# Altium footprint library TIDA-PowerNBIoT_PCB.PcbLib: 30 footprints (part 1 of 2)
Each footprint in its own frame and in the unit in brackets; x right, y up, seen from the top. Pads: shape width x height; smd on the part's side, far side on the other; paste and mask are expansions set on the pad; w line width, h text height; cw(c..) or ccw(c..) is an arc to the next point about the centre after c.
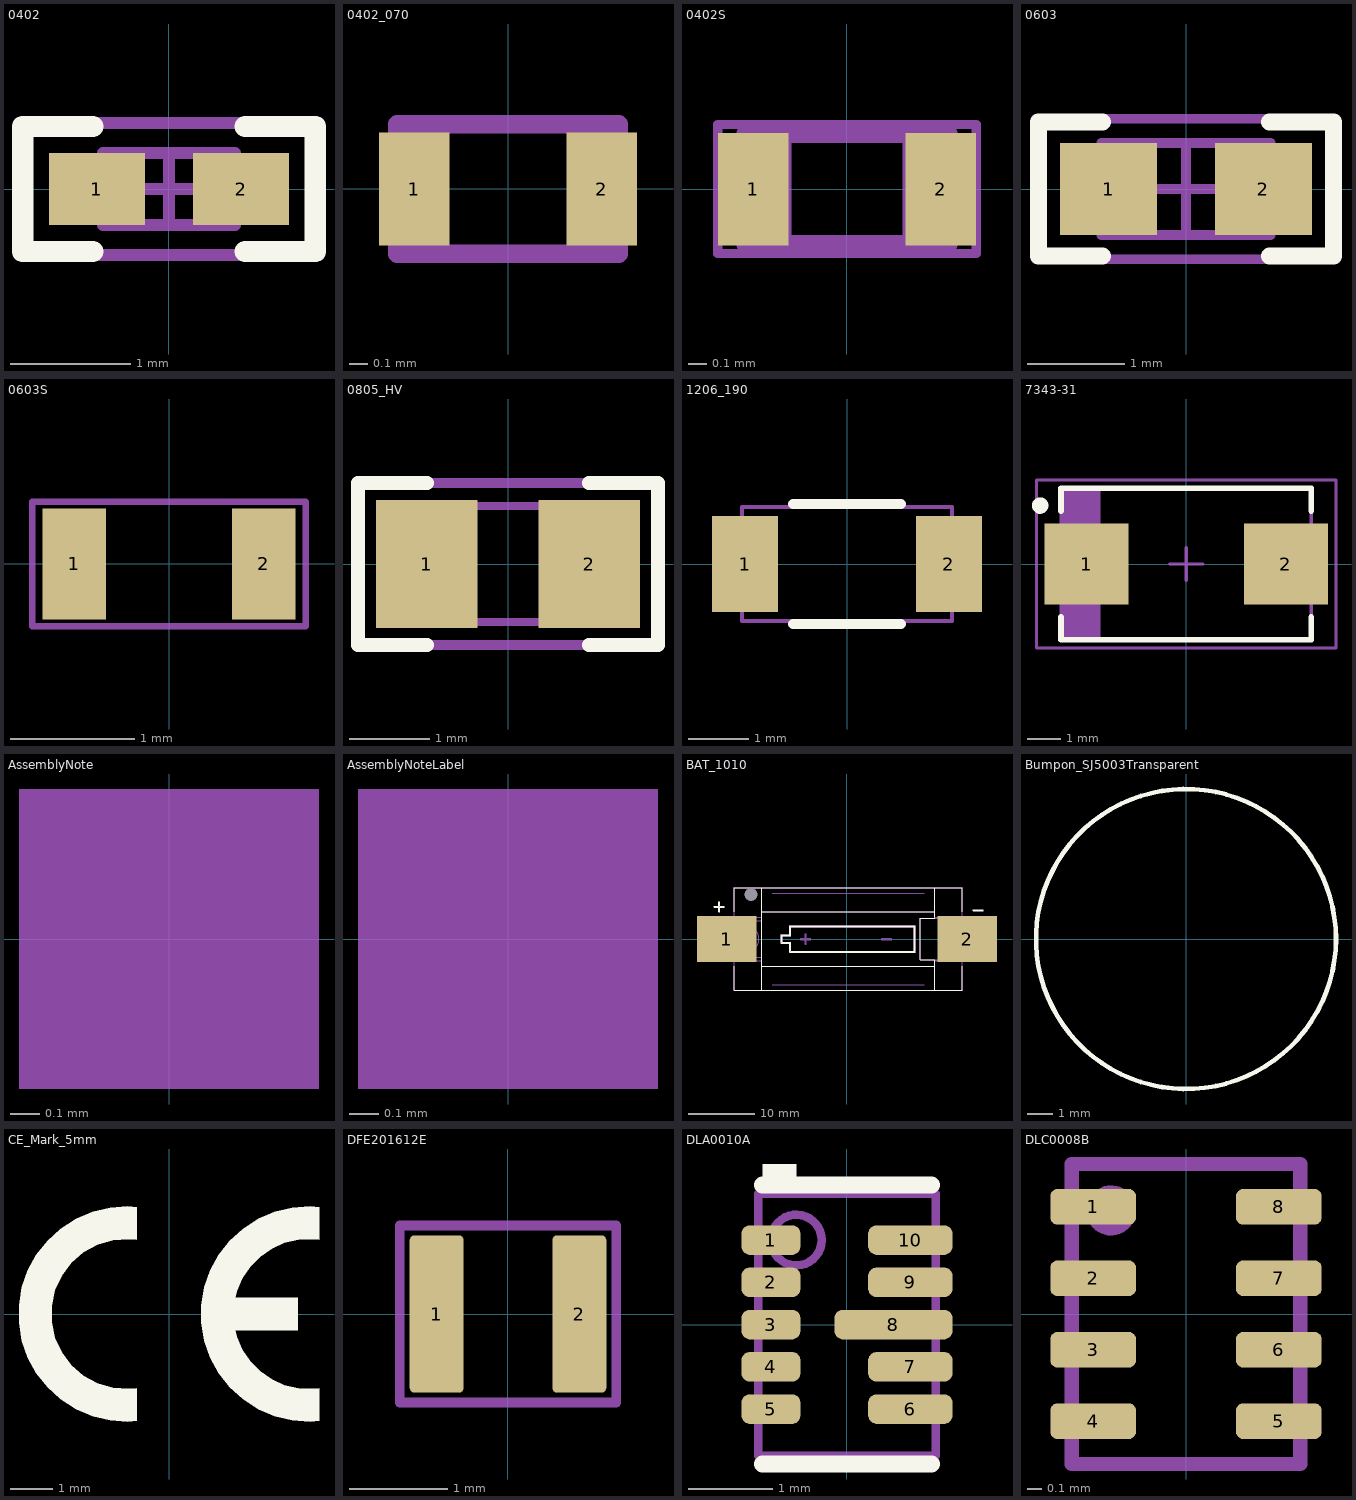
[diagram p0: the footprints below, top view; thin cyan lines are the x and y axes]

## 0402 [mm]
pads (2):
  rect 0.8x0.6 smd: 1(-0.6,0) 2(0.6,0)
Top Overlay:
  lines w0.178: -0.635,-0.521 -1.219,-0.521 -1.219,0.521 -0.635,0.521 ; 0.635,-0.521 1.219,-0.521 1.219,0.521 0.635,0.521
Mechanical 5:
  lines w0.1: -1.25,-0.55 -1.25,0.55 1.25,0.55 1.25,-0.55 -1.25,-0.55
  text ".Designator" at -1.117,-0.305 h0.61
Mechanical 13:
  lines w0.1: -0.35,-0.3 -0.35,0.3 ; 0.35,-0.3 0.35,0.3 ; -0.55,-0.3 0.55,-0.3 0.55,0.3 -0.55,0.3 -0.55,-0.3
Mechanical 15:
  lines w0.1: -0.3,0 0.3,0 ; 0,-0.3 0,0.3 ; -1.25,-0.55 1.25,-0.55 1.25,0.55 -1.25,0.55 -1.25,-0.55
3D body: height 0.6, standoff 0, extent 0.351,-0.299 0.549,0.299
3D body: height 0.6, standoff 0, extent -0.349,-0.299 0.349,0.299
3D body: height 0.6, standoff 0, extent -0.549,-0.299 -0.351,0.299

## 0402_070 [mil]
pads (2):
  rect 15x24 smd: 1(-20,0) 2(20,0)
Mechanical 5:
  lines w3.94: -23.62,-13.78 -23.62,13.78 23.62,13.78 23.62,-13.78 -23.62,-13.78
  text ".Designator" at -21.65,-5.91 h12
3D body: height 27.56, standoff 0, extent 13.78,-13.78 23.62,13.78
3D body: height 27.56, standoff 0, extent -23.62,-13.78 -13.78,13.78
3D body: height 27.56, standoff 0, extent -13.78,-13.78 13.78,13.78

## 0402S [mil]
pads (2):
  rect 15x24 smd: 1(-20,0) 2(20,0)
Mechanical 5:
  lines w1.97: -27.56,-13.78 27.56,-13.78 27.56,13.78 -27.56,13.78 -27.56,-13.78
  text ".Designator" at -21.65,-5.91 h12
Mechanical 13:
  lines w3.94: -13.78,-11.81 -13.78,11.81 ; 13.78,-11.81 13.78,11.81 ; -21.65,-11.81 -21.65,11.81 21.65,11.81 21.65,-11.81 -21.65,-11.81
3D body: height 23.62, standoff 0, extent -21.63,-11.79 -13.8,11.79
3D body: height 23.62, standoff 0, extent -13.76,-11.79 13.76,11.79
3D body: height 23.62, standoff 0, extent 13.8,-11.79 21.63,11.79

## 0603 [mm]
pads (2):
  rect 1x0.95 smd: 1(-0.8,0) 2(0.8,0)
Top Overlay:
  lines w0.178: -0.864,-0.691 -1.524,-0.691 -1.524,0.693 -0.864,0.693 ; 0.864,-0.691 1.524,-0.691 1.524,0.693 0.864,0.693
Mechanical 5:
  lines w0.1: -1.55,-0.725 1.55,-0.725 1.55,0.725 -1.55,0.725 -1.55,-0.725
  text ".Designator" at -1.397,-0.381 h0.76
Mechanical 13:
  lines w0.1: -0.55,-0.475 -0.55,0.475 ; 0.55,-0.475 0.55,0.475 ; -0.875,-0.475 -0.875,0.475 0.875,0.475 0.875,-0.475 -0.875,-0.475
Mechanical 15:
  lines w0.1: -0.475,0 0.475,0 ; 0,-0.475 0,0.475 ; -1.55,-0.725 -1.55,0.725 1.55,0.725 1.55,-0.725 -1.55,-0.725
3D body: height 1, standoff 0, extent 0.551,-0.474 0.874,0.474
3D body: height 1, standoff 0, extent -0.549,-0.474 0.549,0.474
3D body: height 1, standoff 0, extent -0.874,-0.474 -0.551,0.474

## 0603S [mil]
pads (2):
  rect 20x35 smd: 1(-30,0) 2(30,0)
Mechanical 5:
  lines w1.97: -43.31,-19.69 -43.31,19.68 43.31,19.68 43.31,-19.69 -43.31,-19.69
  text ".Designator" at -32.48,-8.86 h18
3D body: height 39.37, standoff 0, extent 21.67,-18.68 34.43,18.68
3D body: height 39.37, standoff 0, extent -21.63,-18.68 21.63,18.68
3D body: height 39.37, standoff 0, extent -34.43,-18.68 -21.67,18.68

## 0805_HV [mil]
pads (2):
  rect 50x63 smd: 1(-40,0) 2(40,0)
Top Overlay:
  lines w7: -40,-40 -74,-40 -74,0 -74,40 -40,40 ; 40,-40 74,-40 74,0 74,40 40,40
Mechanical 5:
  lines w5: -74,-40 74,-40 74,40 -74,40 -74,-40
  text ".Designator" at -64,-17 h35
Mechanical 13:
  lines w3.94: -25.59,-28.54 -25.59,28.54 ; 25.59,-28.54 25.59,28.54 ; -43.31,-28.54 43.31,-28.54 43.31,28.54 -43.31,28.54 -43.31,-28.54
3D body: height 57.09, standoff 0, extent -43.29,-28.52 -25.61,28.52
3D body: height 57.09, standoff 0, extent -25.57,-28.52 25.57,28.52
3D body: height 57.09, standoff 0, extent 25.61,-28.52 43.29,28.52

## 1206_190 [mm]
pads (2):
  rect 1.1x1.6 smd: 1(-1.7,0) 2(1.7,0)
Top Overlay:
  lines w0.17: -0.9,-1 0.9,-1 ; -0.9,1 0.9,1
Mechanical 5:
  lines w0.07: -1.75,-0.95 -1.75,0.95 1.75,0.95 1.75,-0.95 -1.75,-0.95
  text ".Designator" at -1.5,-0.4 h0.81
3D body: height 1.9, standoff 0, extent 1.301,-0.949 1.749,0.949
3D body: height 1.9, standoff 0, extent -1.299,-0.949 1.299,0.949
3D body: height 1.9, standoff 0, extent -1.749,-0.949 -1.301,0.949

## 7343-31 [mm]
pads (2):
  rect 2.55x2.45 smd: 1(-3.025,0) 2(3.025,0)
Top Overlay:
  circle w0.25: c-4.439,1.775 r0.125
  lines w0.178: -3.8,-1.614 -3.8,-2.3 3.8,-2.3 3.8,-1.614 ; -3.8,1.614 -3.8,2.3 3.8,2.3 3.8,1.614
Mechanical 5:
  rectangle: -3.8,-2.3 -2.65,2.3
  lines w0.1: -2.65,-2.3 -2.65,2.3 ; -3.8,-2.3 3.8,-2.3 3.8,2.3 -3.8,2.3 -3.8,-2.3
  text ".Designator" at -1.775,-0.5 h1.02
Mechanical 15:
  lines w0.1: -0.5,0 0.5,0 ; 0,-0.5 0,0.5 ; -4.55,-2.55 -4.55,2.55 4.55,2.55 4.55,-2.55 -4.55,-2.55
3D body: height 3.1, standoff 0, extent -3.8,-2.3 3.8,2.3
3D body: height 3.1, standoff 3.1, extent -3.799,-2.299 -2.651,2.299

## AssemblyNote [mm]
Mechanical 5:
  rectangle: -0.508,-0.508 0.508,0.508
  text ".Comment" at 1.143,-0.508 h1.02
  text ".Designator" at -4.191,-0.508 h1.02

## AssemblyNoteLabel [mm]
Mechanical 5:
  rectangle: -0.508,-0.508 0.508,0.508
  text ".Designator" at -4.191,-0.508 h1.02
  text "Install label in silkscreened box after final wash.  Text shall be 8 pt font.  Text shall be per the Label Table in the PDF schematic." at 1.143,-0.508 h1.02

## BAT_1010 [mm]
pads (3):
  round 0.94 hole 1.994 unplated: 0(-14.54,6.73)
  rect 9x7 smd: 1(-18.21,0) 2(18.21,0)
Top Overlay:
  lines w0.178: -17.075,-4.115 -17.075,-7.772 -16.926,-7.772 -12.89,-7.772 ; -17.075,4.115 -17.075,7.772 -16.926,7.772 -12.89,7.772 ; -12.89,-4.115 13.271,-4.115 ; -12.89,4.115 13.271,4.115 ; 13.271,-3.302 13.271,-5.55 13.271,-7.772 ; 13.271,3.302 13.271,5.55 13.271,7.772 ; 13.272,-3.175 11.19,-3.175 11.074,-3.175 11.074,3.175 11.19,3.175 13.272,3.175 ; 17.456,-4.115 17.456,-7.772 17.307,-7.772 13.271,-7.772 ; 17.456,4.115 17.456,7.772 17.307,7.772 13.271,7.772 ; -12.89,-7.772 -11.316,-7.772 11.697,-7.772 13.271,-7.772 ; -12.89,-7.772 -12.89,-5.55 -12.89,-3.302 -12.89,-2.794 -12.89,2.794 -12.89,3.302 -12.89,5.55 -12.89,7.772 ; -12.89,7.772 -11.316,7.772 11.697,7.772 13.271,7.772 ; -20.122,4.775 -20.122,4.928 -19.406,4.928 -19.406,5.613 -19.253,5.613 -19.253,4.928 -18.598,4.928 -18.598,4.775 -19.253,4.775 -19.253,4.089 -19.406,4.089 -19.406,4.775 -20.122,4.775 ; -9.97,-0.635 -8.7,-0.635 -8.7,-2.032 10.351,-2.032 10.351,2.032 -8.7,2.032 -8.7,0.635 -9.97,0.635 -9.97,-0.635 ; -9.817,-0.483 -9.817,0.483 -8.547,0.483 -8.547,1.88 10.198,1.88 10.198,-1.88 -8.547,-1.88 -8.547,-0.483 -9.817,-0.483 ; 19.113,4.242 20.637,4.242 20.637,4.394 19.113,4.394 19.113,4.242
Mechanical 5:
  lines w0.127: -14.732,-3.175 -14.656,-3.175 ; -14.732,-2.387 -14.656,-2.387 ; -14.732,2.362 -14.656,2.362 ; -14.732,3.175 -14.656,3.175 ; -14.656,-1.905 -14.732,-1.905 ; -14.656,-1.778 -15.062,-1.778 -17.374,-1.778 -17.374,-3.175 -21.692,-3.175 -21.692,3.175 -17.374,3.175 -17.374,1.778 -15.062,1.778 -14.656,1.778 ; -14.656,1.905 -14.732,1.905 ; -14.351,-3.302 -14.351,-3.175 ; -14.351,-2.794 -12.89,-2.794 ; -14.351,-1.723 cw(c-14.275,-1.723) -14.312,-1.656 ccw(c-15.227,0) -13.335,0 ccw(c-15.227,0) -14.312,1.656 cw(c-14.275,1.723) -14.351,1.723 ; -14.351,2.794 -12.89,2.794 ; -14.351,3.302 -14.351,3.175 ; -12.89,-4.115 13.271,-4.115 ; -12.89,4.115 13.271,4.115 ; -11.316,-6.905 11.697,-6.905 ; -11.316,6.905 11.697,6.905 ; 13.271,-3.175 13.271,-3.302 ; 13.271,3.175 13.271,3.302 ; 14.732,-3.302 14.732,-3.175 ; 14.732,3.175 14.732,3.302 ; 15.037,-1.905 15.113,-1.905 ; 15.037,-1.778 15.342,-1.778 17.755,-1.778 17.755,-3.175 22.073,-3.175 22.073,3.175 17.755,3.175 17.755,1.778 15.342,1.778 15.037,1.778 ; 15.037,1.905 15.113,1.905 ; -14.732,-1.905 -14.732,-3.302 -12.89,-3.302 ; -14.732,-1.905 -15.817,-1.905 -16.833,-1.905 -17.075,-1.905 -17.075,-7.772 -16.926,-7.772 -12.89,-7.772 ; -14.732,1.905 -14.732,3.302 -12.89,3.302 ; -14.732,1.905 -15.817,1.905 -16.833,1.905 -17.075,1.905 -17.075,7.772 -16.926,7.772 -12.89,7.772 ; -14.656,-3.175 -14.351,-3.175 ; -14.656,-3.175 -14.656,3.175 ; -14.656,3.175 -14.351,3.175 ; -14.351,-3.175 -14.351,3.175 ; -12.89,-7.772 -12.89,-5.55 -12.89,-3.302 ; -12.89,-7.772 -11.316,-7.772 11.697,-7.772 13.271,-7.772 ; -12.89,-3.302 -12.89,-2.794 ; -12.89,-2.794 -12.89,2.794 ; -12.89,2.794 -12.89,3.302 ; -12.89,3.302 -12.89,5.55 -12.89,7.772 ; -12.89,7.772 -11.316,7.772 11.697,7.772 13.271,7.772 ; 13.271,-7.772 17.307,-7.772 17.456,-7.772 17.456,-1.905 17.214,-1.905 16.198,-1.905 15.113,-1.905 ; 13.271,-7.772 13.271,-5.55 13.271,-3.302 ; 13.271,-3.302 15.113,-3.302 15.113,-1.905 ; 13.271,3.302 15.113,3.302 15.113,1.905 ; 13.271,3.302 13.271,5.55 13.271,7.772 ; 13.271,7.772 17.307,7.772 17.456,7.772 17.456,1.905 17.214,1.905 16.198,1.905 15.113,1.905 ; -20.523,-0.406 -20.523,0.406 -18.948,0.406 -18.948,-0.406 -20.523,-0.406 ; -9.97,-0.635 -9.97,0.635 -8.7,0.635 -8.7,2.032 10.351,2.032 10.351,-2.032 -8.7,-2.032 -8.7,-0.635 -9.97,-0.635 ; -9.817,-0.483 -8.547,-0.483 -8.547,-1.88 10.198,-1.88 10.198,1.88 -8.547,1.88 -8.547,0.483 -9.817,0.483 -9.817,-0.483 ; -7.028,-0.076 -6.312,-0.076 -6.312,-0.762 -6.159,-0.762 -6.159,-0.076 -5.504,-0.076 -5.504,0.076 -6.159,0.076 -6.159,0.762 -6.312,0.762 -6.312,0.076 -7.028,0.076 -7.028,-0.076 ; 5.271,-0.076 5.271,0.076 6.794,0.076 6.794,-0.076 5.271,-0.076 ; 11.074,-3.175 11.19,-3.175 13.272,-3.175 15.037,-3.175 15.037,3.175 13.272,3.175 11.19,3.175 11.074,3.175 11.074,-3.175 ; 19.329,-0.406 20.904,-0.406 20.904,0.406 19.329,0.406 19.329,-0.406
  text ".Designator" at -3.937,-0.356 h1.02
3D body "Keystone_1010.stp": height 15.06, standoff -1.07, extent -21.697,-7.773 22.068,7.772

## Bumpon_SJ5003Transparent [mil]
pads (1):
  round 1 on Mech3: 0(0,0)
Top Overlay:
  circle w7: c0,0 r228.04
Mechanical 5:
  circle w5: c0,0 r228.04
  text ".Designator" at -60,-20 h40
3D body "3M_SJ5003Transparent.stp": height 196.82, standoff 0, extent -216.77,-218.07 218.51,218.08

## CE_Mark_5mm [mm]
Top Overlay:
  region: -0.75,-2.487 -0.958,-2.508 -1.376,-2.48 -1.783,-2.383 -2.169,-2.22 -2.522,-1.994 -2.832,-1.714 -3.092,-1.385 -3.293,-1.018 -3.43,-0.622 -3.5,-0.209 -3.5,0.209 -3.43,0.622 -3.293,1.018 -3.092,1.385 -2.832,1.714 -2.522,1.994 -2.169,2.22 -1.783,2.383 -1.376,2.48 -0.958,2.508 -0.75,2.487 -0.75,1.732 -0.937,1.749 -1.31,1.722 -1.669,1.617 -1.998,1.438 -2.281,1.193 -2.505,0.893 -2.66,0.553 -2.74,0.187 -2.74,-0.187 -2.66,-0.553 -2.505,-0.893 -2.281,-1.193 -1.998,-1.438 -1.669,-1.617 -1.31,-1.722 -0.937,-1.749 -0.75,-1.732
  region: 3.5,-1.732 3.337,-1.748 3.01,-1.733 2.691,-1.658 2.392,-1.525 2.123,-1.339 1.894,-1.106 1.712,-0.834 1.583,-0.533 1.541,-0.375 3,-0.375 3,0.375 1.541,0.375 1.583,0.533 1.712,0.834 1.894,1.106 2.123,1.339 2.392,1.525 2.691,1.658 3.01,1.733 3.337,1.748 3.5,1.732 3.5,2.487 3.292,2.508 2.874,2.48 2.467,2.383 2.081,2.22 1.728,1.994 1.418,1.714 1.158,1.385 0.957,1.018 0.82,0.622 0.75,0.209 0.75,-0.209 0.82,-0.622 0.957,-1.018 1.158,-1.385 1.418,-1.714 1.728,-1.994 2.081,-2.22 2.467,-2.383 2.874,-2.48 3.292,-2.508 3.5,-2.487

## DFE201612E [mm]
pads (2):
  rrect18% 0.55x1.6 smd: 1(-0.725,0) 2(0.725,0)
Mechanical 5:
  lines w0.1: -1.1,-0.9 -1.1,0.9 1.1,0.9 1.1,-0.9 -1.1,-0.9
  text ".Designator" at -0.875,-0.225 h0.46
3D body: height 1.2, standoff 0, extent -1.099,-0.899 -0.451,0.899
3D body: height 1.2, standoff 0, extent -0.449,-0.899 0.449,0.899
3D body: height 1.2, standoff 0, extent 0.451,-0.899 1.099,0.899

## DLA0010A [mm]
pads (12):
  rrect57% 0.7x0.35 smd paste-0.05 mask-0.05: 1(-0.9,1) 2(-0.9,0.5) 3(-0.9,0) 4(-0.9,-0.5) 5(-0.9,-1)
  rrect57% 1x0.35 smd paste-0.05 mask-0.05: 6(0.75,-1) 7(0.75,-0.5) 9(0.75,0.5) 10(0.75,1)
  rrect57% 1.4x0.35 smd paste-1 mask-0.05: 8(0.55,0)
  rrect50% 0.55x0.25 on Top Paste: ""(0.175,0) ""(0.925,0)
Top Overlay:
  rectangle: -1,1.65 -0.6,1.9
  lines w0.2: -1,-1.65 1,-1.65 ; -1,1.65 1,1.65
Mechanical 5:
  circle w0.1: c-0.6,1 r0.3
  lines w0.1: -1.05,-1.55 1.05,-1.55 1.05,1.55 -1.05,1.55 -1.05,-1.55
  text ".Designator" at 0.1,0.9 h0.5
3D body: height 1, standoff 0, extent -1.05,-1.55 1.05,1.55
3D body: height 1, standoff 1, extent -0.916,0.684 -0.284,1.316

## DLC0008B [mm]
pads (8):
  rrect40% 0.6x0.25 smd: 1(-0.65,0.75) 2(-0.65,0.25) 3(-0.65,-0.25) 4(-0.65,-0.75) 5(0.65,-0.75) 6(0.65,-0.25) 7(0.65,0.25) 8(0.65,0.75)
Mechanical 5:
  circle w0.1: c-0.525,0.725 r0.125
  lines w0.1: -0.8,-1.05 -0.8,1.05 0.8,1.05 0.8,-1.05 -0.8,-1.05
  text ".Designator" at -2.099,-0.367 h0.4
3D body "DLC0008B.stp": height 1, standoff 0, extent -0.75,-1 0.75,1